# Altium schematic symbol library REF3012AIDBZTG4.SchLib: 1 symbol
Pins are listed as number, name and electrical type; pins without a type are passive.

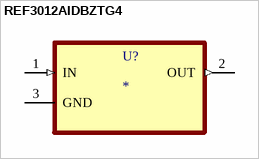
[diagram p0: symbol REF3012AIDBZTG4]

## REF3012AIDBZTG4
designator U?
CMOS VOLTAGE REFERENCE; MP: REF3012AIDBZTG4; Package: None; Price: None; Value: *; Availability: Unavailable
footprint SOT95P237X112-3N
pins: 1 IN (in), 2 OUT (out), 3 GND